# EAGLE library part THS4500 (library kamiki)
Operational Amplifier Wideband,Low-distortion fully differential amplifier
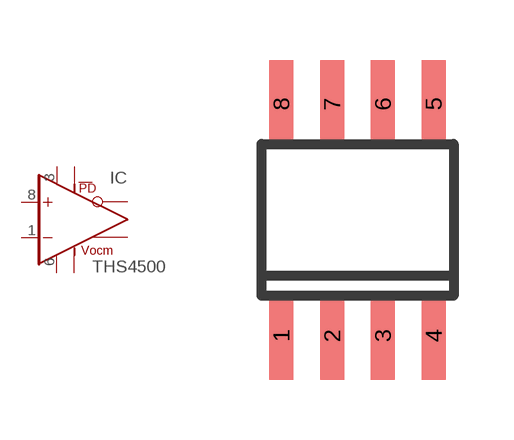
[diagram p29: symbol with the pads of SO08; footprint SO08]

Designator prefix IC

## THS4500  [SO08]
1  -IN  in
2  VOCM  in
3  +VS  pwr
4  +OUT  out
5  -OUT  out
6  -VS  pwr
7  #PD  in
8  +IN  in

## Footprint SO08 (pad centres in mm)
Small Outline Package 8
smd 0.6 x 2.2: 1 -1.905,-2.9; 2 -0.635,-2.9; 3 0.635,-2.9; 4 1.905,-2.9; 5 1.905,2.9; 6 0.635,2.9; 7 -0.635,2.9; 8 -1.905,2.9